# Altium footprint library CON2_156mil_RT.PcbLib: 1 footprints
Each footprint in its own frame and in the unit in brackets; x right, y up, seen from the top. Pads: shape width x height; smd on the part's side, far side on the other; paste and mask are expansions set on the pad; w line width, h text height; cw(c..) or ccw(c..) is an arc to the next point about the centre after c.
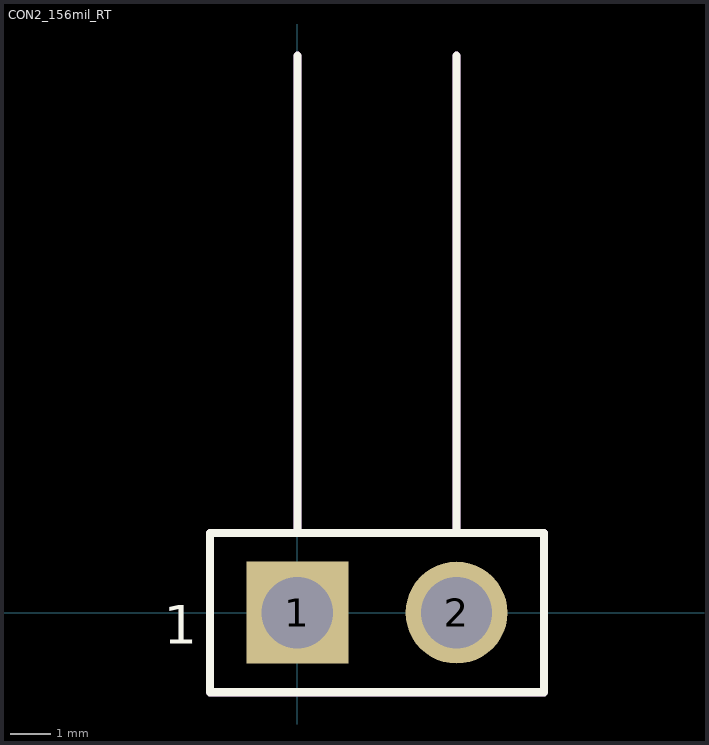
[diagram p0: the footprint, top view; thin cyan lines are the x and y axes]

## CON2_156mil_RT [mil]
height 100
pads (2):
  rect 100x100 hole 70: 1(0,0)
  round 100 hole 70: 2(156,0)
Top Overlay:
  lines w8: 0,78 0,546 ; 156,78 156,546 ; -85.8,-78 -85.8,78 234,78 241.8,78 241.8,-78 234,-78 156,-78 0,-78 -85.8,-78
  text "1" at -130.88,-30.63 h37.5
Mechanical 1:
  lines w8: 0,78 0,546 ; 156,78 156,546 ; -85.8,-78 -85.8,78 234,78 241.8,78 241.8,-78 234,-78 156,-78 0,-78 -85.8,-78
3D body: height 395.25, standoff -154.75, extent -73,-20 233,795.5